# EAGLE library part XCR3256XLTQ144 (library xcr3256xl)
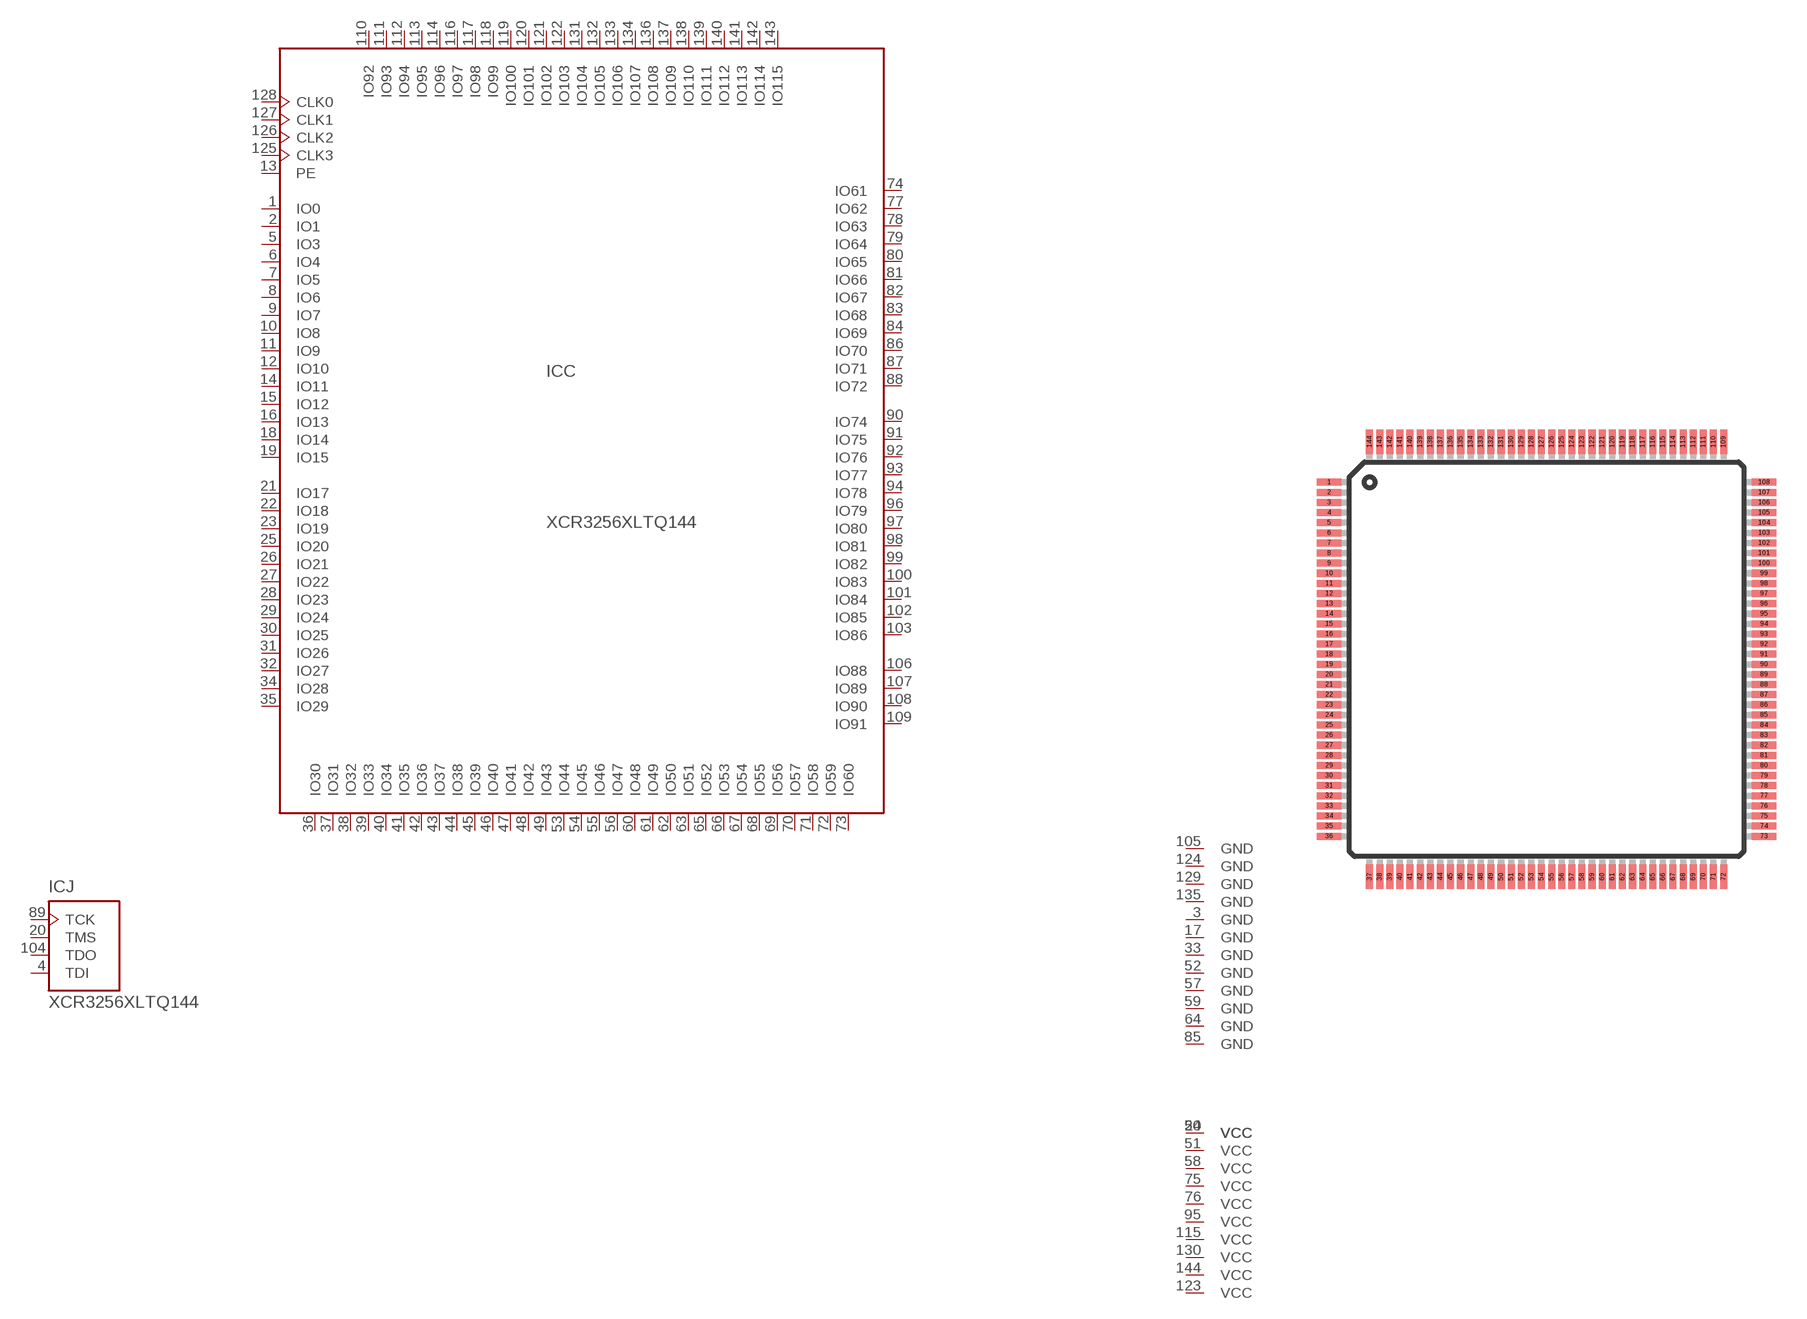
[diagram p0: symbol with the pads of TQ144; footprint TQ144]

Designator prefix IC; gates C=XCR3256-144 J=JTAG V1=VCC V2=VCC V3=VCC V4=VCC V5=VCC V6=VCC V7=VCC V8=VCC G1=GND G2=GND G3=GND G4=GND G5=GND G6=GND G7=GND G8=GND G9=GND G10=GND G11=GND G12=GND V9=VCC V10=VCC V11=VCC

## XCR3256XLTQ144  [TQ144]
1  C:IO0
2  C:IO1
3  G1:GND  pwr
4  J:TDI  in
5  C:IO3
6  C:IO4
7  C:IO5
8  C:IO6
9  C:IO7
10  C:IO8
11  C:IO9
12  C:IO10
13  C:PE  in
14  C:IO11
15  C:IO12
16  C:IO13
17  G2:GND  pwr
18  C:IO14
19  C:IO15
20  J:TMS  in
21  C:IO17
22  C:IO18
23  C:IO19
24  V1:VCC  pwr
25  C:IO20
26  C:IO21
27  C:IO22
28  C:IO23
29  C:IO24
30  C:IO25
31  C:IO26
32  C:IO27
33  G3:GND  pwr
34  C:IO28
35  C:IO29
36  C:IO30
37  C:IO31
38  C:IO32
39  C:IO33
40  C:IO34
41  C:IO35
42  C:IO36
43  C:IO37
44  C:IO38
45  C:IO39
46  C:IO40
47  C:IO41
48  C:IO42
49  C:IO43
50  V2:VCC  pwr
51  V3:VCC  pwr
52  G4:GND  pwr
53  C:IO44
54  C:IO45
55  C:IO46
56  C:IO47
57  G5:GND  pwr
58  V4:VCC  pwr
59  G6:GND  pwr
60  C:IO48
61  C:IO49
62  C:IO50
63  C:IO51
64  G7:GND  pwr
65  C:IO52
66  C:IO53
67  C:IO54
68  C:IO55
69  C:IO56
70  C:IO57
71  C:IO58
72  C:IO59
73  C:IO60
74  C:IO61
75  V5:VCC  pwr
76  V6:VCC  pwr
77  C:IO62
78  C:IO63
79  C:IO64
80  C:IO65
81  C:IO66
82  C:IO67
83  C:IO68
84  C:IO69
85  G8:GND  pwr
86  C:IO70
87  C:IO71
88  C:IO72
89  J:TCK  in
90  C:IO74
91  C:IO75
92  C:IO76
93  C:IO77
94  C:IO78
95  V7:VCC  pwr
96  C:IO79
97  C:IO80
98  C:IO81
99  C:IO82
100  C:IO83
101  C:IO84
102  C:IO85
103  C:IO86
104  J:TDO  out
105  G9:GND  pwr
106  C:IO88
107  C:IO89
108  C:IO90
109  C:IO91
110  C:IO92
111  C:IO93
112  C:IO94
113  C:IO95
114  C:IO96
115  V8:VCC  pwr
116  C:IO97
117  C:IO98
118  C:IO99
119  C:IO100
120  C:IO101
121  C:IO102
122  C:IO103
123  V9:VCC  pwr
124  G10:GND  pwr
125  C:CLK3  in
126  C:CLK2  in
127  C:CLK1  in
128  C:CLK0  in
129  G11:GND  pwr
130  V10:VCC  pwr
131  C:IO104
132  C:IO105
133  C:IO106
134  C:IO107
135  G12:GND  pwr
136  C:IO108
137  C:IO109
138  C:IO110
139  C:IO111
140  C:IO112
141  C:IO113
142  C:IO114
143  C:IO115
144  V11:VCC  pwr

## Footprint TQ144 (pad centres in mm)
smd 1.2 x 0.35: 1 -10.75,8.75; 2 -10.75,8.25; 3 -10.75,7.75; 4 -10.75,7.25; 5 -10.75,6.75; 6 -10.75,6.25; 7 -10.75,5.75; 8 -10.75,5.25; 9 -10.75,4.75; 10 -10.75,4.25; 11 -10.75,3.75; 12 -10.75,3.25; 13 -10.75,2.75; 14 -10.75,2.25; 15 -10.75,1.75; 16 -10.75,1.25; 17 -10.75,0.75; 18 -10.75,0.25; 19 -10.75,-0.25; 20 -10.75,-0.75; 21 -10.75,-1.25; 22 -10.75,-1.75; 23 -10.75,-2.25; 24 -10.75,-2.75; 25 -10.75,-3.25; 26 -10.75,-3.75; 27 -10.75,-4.25; 28 -10.75,-4.75; 29 -10.75,-5.25; 30 -10.75,-5.75; 31 -10.75,-6.25; 32 -10.75,-6.75; 33 -10.75,-7.25; 34 -10.75,-7.75; 35 -10.75,-8.25; 36 -10.75,-8.75; 73 10.75,-8.75; 74 10.75,-8.25; 75 10.75,-7.75; 76 10.75,-7.25; 77 10.75,-6.75; 78 10.75,-6.25; 79 10.75,-5.75; 80 10.75,-5.25; 81 10.75,-4.75; 82 10.75,-4.25; 83 10.75,-3.75; 84 10.75,-3.25; 85 10.75,-2.75; 86 10.75,-2.25; 87 10.75,-1.75; 88 10.75,-1.25; 89 10.75,-0.75; 90 10.75,-0.25; 91 10.75,0.25; 92 10.75,0.75; 93 10.75,1.25; 94 10.75,1.75; 95 10.75,2.25; 96 10.75,2.75; 97 10.75,3.25; 98 10.75,3.75; 99 10.75,4.25; 100 10.75,4.75; 101 10.75,5.25; 102 10.75,5.75; 103 10.75,6.25; 104 10.75,6.75; 105 10.75,7.25; 106 10.75,7.75; 107 10.75,8.25; 108 10.75,8.75
smd 0.35 x 1.2: 37 -8.75,-10.75; 38 -8.25,-10.75; 39 -7.75,-10.75; 40 -7.25,-10.75; 41 -6.75,-10.75; 42 -6.25,-10.75; 43 -5.75,-10.75; 44 -5.25,-10.75; 45 -4.75,-10.75; 46 -4.25,-10.75; 47 -3.75,-10.75; 48 -3.25,-10.75; 49 -2.75,-10.75; 50 -2.25,-10.75; 51 -1.75,-10.75; 52 -1.25,-10.75; 53 -0.75,-10.75; 54 -0.25,-10.75; 55 0.25,-10.75; 56 0.75,-10.75; 57 1.25,-10.75; 58 1.75,-10.75; 59 2.25,-10.75; 60 2.75,-10.75; 61 3.25,-10.75; 62 3.75,-10.75; 63 4.25,-10.75; 64 4.75,-10.75; 65 5.25,-10.75; 66 5.75,-10.75; 67 6.25,-10.75; 68 6.75,-10.75; 69 7.25,-10.75; 70 7.75,-10.75; 71 8.25,-10.75; 72 8.75,-10.75; 109 8.75,10.75; 110 8.25,10.75; 111 7.75,10.75; 112 7.25,10.75; 113 6.75,10.75; 114 6.25,10.75; 115 5.75,10.75; 116 5.25,10.75; 117 4.75,10.75; 118 4.25,10.75; 119 3.75,10.75; 120 3.25,10.75; 121 2.75,10.75; 122 2.25,10.75; 123 1.75,10.75; 124 1.25,10.75; 125 0.75,10.75; 126 0.25,10.75; 127 -0.25,10.75; 128 -0.75,10.75; 129 -1.25,10.75; 130 -1.75,10.75; 131 -2.25,10.75; 132 -2.75,10.75; 133 -3.25,10.75; 134 -3.75,10.75; 135 -4.25,10.75; 136 -4.75,10.75; 137 -5.25,10.75; 138 -5.75,10.75; 139 -6.25,10.75; 140 -6.75,10.75; 141 -7.25,10.75; 142 -7.75,10.75; 143 -8.25,10.75; 144 -8.75,10.75